# Altium footprint library sensormodule.PcbLib: 1 footprints
Each footprint in its own frame and in the unit in brackets; x right, y up, seen from the top. Pads: shape width x height; smd on the part's side, far side on the other; paste and mask are expansions set on the pad; w line width, h text height; cw(c..) or ccw(c..) is an arc to the next point about the centre after c.
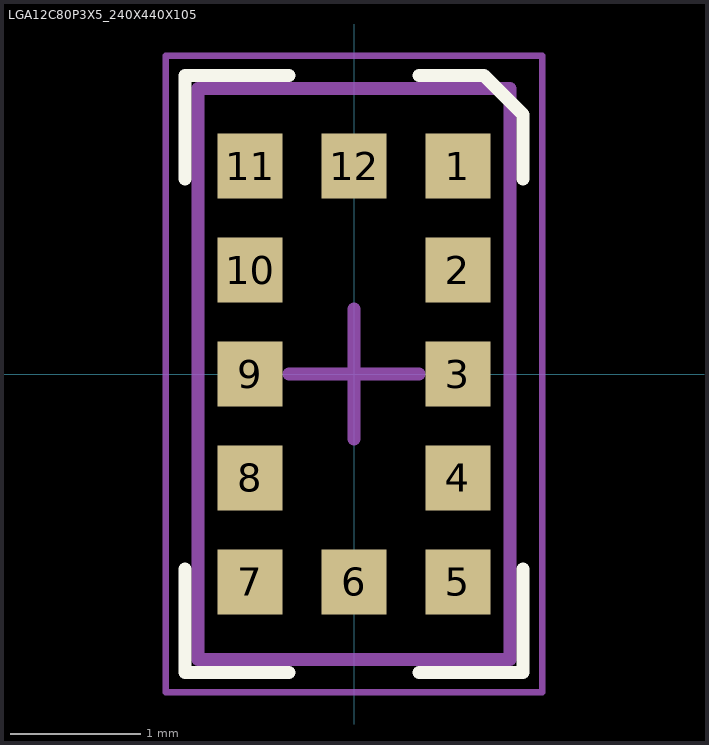
[diagram p0: the footprint, top view; thin cyan lines are the x and y axes]

## LGA12C80P3X5_240X440X105 [mm] "LGA, 12-Leads, Body 2.40x4.40mmx1.05mm, Pitch 0.80mm"
height 1.05
pads (12):
  rect 0.5x0.5 smd: 1(0.8,1.6) 2(0.8,0.8) 3(0.8,0) 4(0.8,-0.8) 5(0.8,-1.6) 6(0,-1.6) 7(-0.8,-1.6) 8(-0.8,-0.8) 9(-0.8,0) 10(-0.8,0.8) 11(-0.8,1.6) 12(0,1.6)
Top Overlay:
  lines w0.1: -1.3,-1.5 -1.3,-2.3 -0.5,-2.3 ; -1.3,1.5 -1.3,2.3 -0.5,2.3 ; 0.5,-2.3 1.3,-2.3 1.3,-1.5 ; 0.5,2.3 1,2.3 1.3,2 1.3,1.5
Mechanical 13:
  lines w0.1: -1.2,-2.2 1.2,-2.2 1.2,2.2 -1.2,2.2 -1.2,-2.2
Mechanical 15:
  lines w0.05: -1.45,-2.45 1.45,-2.45 1.45,2.45 -1.45,2.45 -1.45,-2.45
  lines w0.1: -0.5,0 0.5,0 ; 0,-0.5 0,0.5
3D body: height 1, standoff 0, extent -0.099,-1.6 0.1,-1.4
3D body: height 1, standoff 0, extent -0.198,1.3 0.2,1.7
3D body: height 0.95, standoff 0, extent -1.2,-2.2 1.2,2.2